# EAGLE library part 74HC595 (library Charlie)
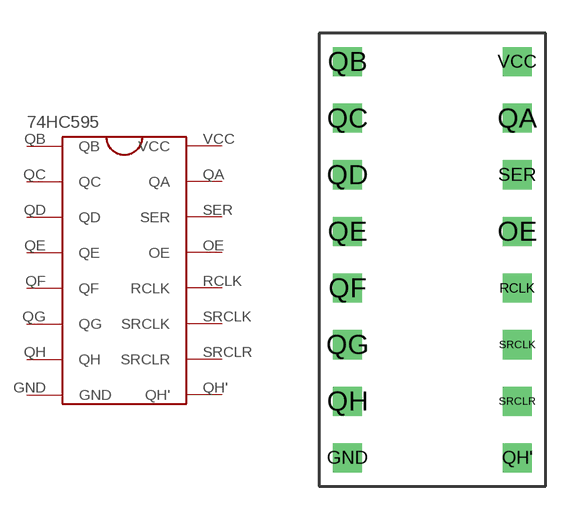
[diagram p1: symbol with the pads of 74HC595; footprint 74HC595]

Designator prefix -

## 74HC595  [74HC595]
GND  GND
OE  OE
QA  QA
QB  QB
QC  QC
QD  QD
QE  QE
QF  QF
QG  QG
QH  QH
QH'  QH'
RCLK  RCLK
SER  SER
SRCLK  SRCLK
SRCLR  SRCLR
VCC  VCC

## Footprint 74HC595 (pad centres in mm)
drill 0.8 square: GND -3.81,-8.89; OE 3.81,1.27; QA 3.81,6.35; QB -3.81,8.89; QC -3.81,6.35; QD -3.81,3.81; QE -3.81,1.27; QF -3.81,-1.27; QG -3.81,-3.81; QH -3.81,-6.35; QH' 3.81,-8.89; RCLK 3.81,-1.27; SER 3.81,3.81; SRCLK 3.81,-3.81; SRCLR 3.81,-6.35; VCC 3.81,8.89